# EAGLE library part FTSH-105-01-F-D-RA-K (library FTSH-105-01-F-D-RA-K)
10 position, High Reliability Header Strips, 0.050" pitch, Dual-Row Vertical Source: Datasheet <https://www.digikey.ph/en/products/detail/samtec-inc/FTSH-105-01-F-D-RA-K/6678169?msockid=39f1ec84d77b6f4428b7f904d6676eed>
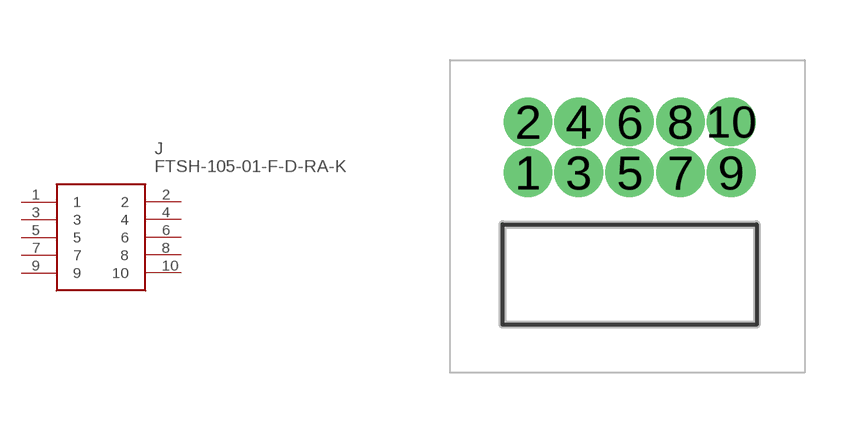
[diagram p0: symbol with the pads of FTSH-105-XX-YYY-D-RA-K; footprint FTSH-105-XX-YYY-D-RA-K]

Designator prefix J

## FTSH-105-01-F-D-RA-K (Arrow_Part_Number: FTSH-105-01-F-D-RA-K; Arrow_Price-Stock: https://www.arrow.com/en/products/ftsh-105-01-f-d-ra-k/samtec?region=nac; Description: 10 position, High Reliability Header Strips, 0.050&quot; pitch, Dual-Row Vertical; Height: mm; Manufacturer_Name: SAMTEC; Manufacturer_Part_Number: FTSH-105-01-F-D-RA-K; Mouser_Part_Number: 200-FTSH10501FDRAK; Mouser_Price-Stock: https://www.mouser.co.uk/ProductDetail/Samtec/FTSH-105-01-F-D-RA-K?qs=rU5fayqh%252BE1V1PXadoS%2Fyw%3D%3D)  [FTSH-105-XX-YYY-D-RA-K]
1  1
2  2
3  3
4  4
5  5
6  6
7  7
8  8
9  9
10  10

## Footprint FTSH-105-XX-YYY-D-RA-K (pad centres in mm)
FTSH-105-XX-YYY-D-RA-K
drill 0.71 pad 1.1: 1 0,0; 2 0,1.27; 3 1.27,0; 4 1.27,1.27; 5 2.54,0; 6 2.54,1.27; 7 3.81,0; 8 3.81,1.27; 9 5.08,0; 10 5.08,1.27